# Altium footprint library AD8293.PcbLib: 3 footprints
Each footprint in its own frame and in the unit in brackets; x right, y up, seen from the top. Pads: shape width x height; smd on the part's side, far side on the other; paste and mask are expansions set on the pad; w line width, h text height; cw(c..) or ccw(c..) is an arc to the next point about the centre after c.
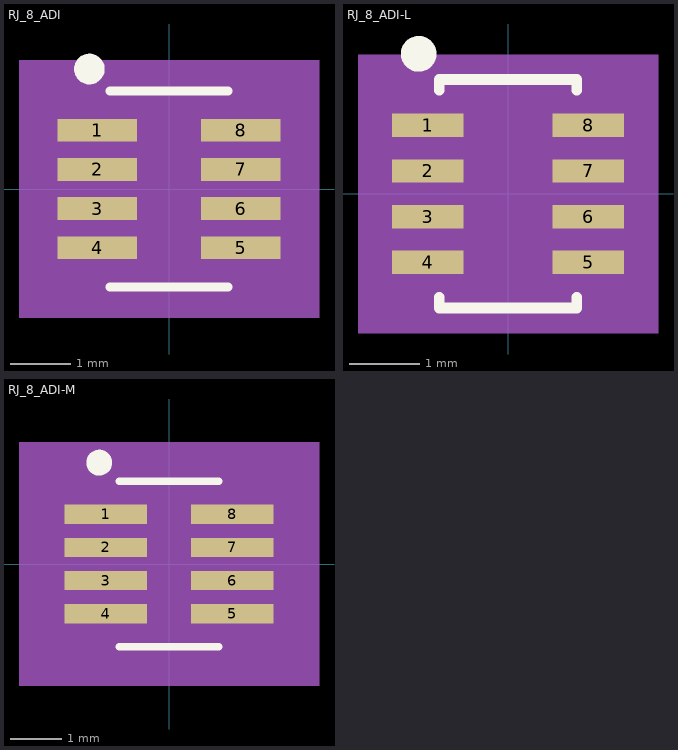
[diagram p0: the footprints below, top view; thin cyan lines are the x and y axes]

## RJ_8_ADI [mil]
pads (8):
  rect 52x15 smd paste+0 mask+0: 1(-47,38.39) 2(-47,12.8) 3(-47,-12.8) 4(-47,-38.39) 5(47,-38.39) 6(47,-12.8) 7(47,12.8) 8(47,38.39)
Top Overlay:
  circle w10: c-52,78.39 r5
  lines w6: -38.5,-64 38.5,-64 ; -38.5,64 38.5,64
Mechanical 5:
  region: 98,-84 -98,-84 -98,84 98,84
Mechanical 13:
  lines w0: -12,59 ccw(c0,59) 12,59
  lines w1: -59,-45.89 -33.5,-45.89 -33.5,-30.89 -59,-30.89 -59,-45.89 ; -59,-20.3 -33.5,-20.3 -33.5,-5.3 -59,-5.3 -59,-20.3 ; -59,5.3 -33.5,5.3 -33.5,20.3 -59,20.3 -59,5.3 ; -59,30.89 -33.5,30.89 -33.5,45.89 -59,45.89 -59,30.89 ; -33.5,-59 -33.5,59 33.5,59 33.5,-59 -33.5,-59 ; 33.5,-45.89 59,-45.89 59,-30.89 33.5,-30.89 33.5,-45.89 ; 33.5,-20.3 59,-20.3 59,-5.3 33.5,-5.3 33.5,-20.3 ; 33.5,5.3 59,5.3 59,20.3 33.5,20.3 33.5,5.3 ; 33.5,30.89 59,30.89 59,45.89 33.5,45.89 33.5,30.89
  text "*" at -36,10.39 h50
Mechanical 15:
  region: 43.5,-69 -43.5,-69 -43.5,-55.89 -83,-55.89 -83,55.89 -43.5,55.89 -43.5,69 43.5,69 43.5,55.89 83,55.89 83,-55.89 43.5,-55.89
  lines w6: -83,-55.89 -83,55.89 -43.5,55.89 -43.5,69 43.5,69 43.5,55.89 83,55.89 83,-55.89 43.5,-55.89 43.5,-69 -43.5,-69 -43.5,-55.89 -83,-55.89
3D body "RJ_8_ADI.step": height 57.09, standoff 0, extent -59.01,-59.01 59.01,59.01

## RJ_8_ADI-L [mil]
pads (8):
  rect 40x13 smd paste+0 mask+0: 1(-45,38.39) 2(-45,12.8) 3(-45,-12.8) 4(-45,-38.39) 5(45,-38.39) 6(45,-12.8) 7(45,12.8) 8(45,38.39)
Top Overlay:
  circle w10: c-50,78.39 r5
  lines w6: -38.5,-57.99 -38.5,-64 38.5,-64 38.5,-57.99 ; -38.5,57.99 -38.5,64 38.5,64 38.5,57.99
Mechanical 5:
  region: 84,-78 -84,-78 -84,78 84,78
Mechanical 13:
  lines w0: -12,59 ccw(c0,59) 12,59
  lines w1: -59,-45.89 -33.5,-45.89 -33.5,-30.89 -59,-30.89 -59,-45.89 ; -59,-20.3 -33.5,-20.3 -33.5,-5.3 -59,-5.3 -59,-20.3 ; -59,5.3 -33.5,5.3 -33.5,20.3 -59,20.3 -59,5.3 ; -59,30.89 -33.5,30.89 -33.5,45.89 -59,45.89 -59,30.89 ; -33.5,-59 -33.5,59 33.5,59 33.5,-59 -33.5,-59 ; 33.5,-45.89 59,-45.89 59,-30.89 33.5,-30.89 33.5,-45.89 ; 33.5,-20.3 59,-20.3 59,-5.3 33.5,-5.3 33.5,-20.3 ; 33.5,5.3 59,5.3 59,20.3 33.5,20.3 33.5,5.3 ; 33.5,30.89 59,30.89 59,45.89 33.5,45.89 33.5,30.89
  text "*" at -36,8.39 h50
Mechanical 15:
  region: 37.5,-63 -37.5,-63 -37.5,-48.89 -69,-48.89 -69,48.89 -37.5,48.89 -37.5,63 37.5,63 37.5,48.89 69,48.89 69,-48.89 37.5,-48.89
  lines w6: -69,-48.89 -69,48.89 -37.5,48.89 -37.5,63 37.5,63 37.5,48.89 69,48.89 69,-48.89 37.5,-48.89 37.5,-63 -37.5,-63 -37.5,-48.89 -69,-48.89
3D body "RJ_8_ADI.step": height 57.09, standoff 0, extent -59.01,-59.01 59.01,59.01

## RJ_8_ADI-M [mil]
pads (8):
  rect 64x15 smd paste+0 mask+0: 1(-49,38.39) 2(-49,12.8) 3(-49,-12.8) 4(-49,-38.39) 5(49,-38.39) 6(49,-12.8) 7(49,12.8) 8(49,38.39)
Top Overlay:
  circle w10: c-54,78.39 r5
  lines w6: -38.5,-64 38.5,-64 ; -38.5,64 38.5,64
Mechanical 5:
  region: 116,-94 -116,-94 -116,94 116,94
Mechanical 13:
  lines w0: -12,59 ccw(c0,59) 12,59
  lines w1: -59,-45.89 -33.5,-45.89 -33.5,-30.89 -59,-30.89 -59,-45.89 ; -59,-20.3 -33.5,-20.3 -33.5,-5.3 -59,-5.3 -59,-20.3 ; -59,5.3 -33.5,5.3 -33.5,20.3 -59,20.3 -59,5.3 ; -59,30.89 -33.5,30.89 -33.5,45.89 -59,45.89 -59,30.89 ; -33.5,-59 -33.5,59 33.5,59 33.5,-59 -33.5,-59 ; 33.5,-45.89 59,-45.89 59,-30.89 33.5,-30.89 33.5,-45.89 ; 33.5,-20.3 59,-20.3 59,-5.3 33.5,-5.3 33.5,-20.3 ; 33.5,5.3 59,5.3 59,20.3 33.5,20.3 33.5,5.3 ; 33.5,30.89 59,30.89 59,45.89 33.5,45.89 33.5,30.89
  text "*" at -36,10.39 h50
Mechanical 15:
  region: 53.5,-79 -53.5,-79 -53.5,-65.89 -101,-65.89 -101,65.89 -53.5,65.89 -53.5,79 53.5,79 53.5,65.89 101,65.89 101,-65.89 53.5,-65.89
  lines w6: -101,-65.89 -101,65.89 -53.5,65.89 -53.5,79 53.5,79 53.5,65.89 101,65.89 101,-65.89 53.5,-65.89 53.5,-79 -53.5,-79 -53.5,-65.89 -101,-65.89
3D body "RJ_8_ADI.step": height 57.09, standoff 0, extent -59.01,-59.01 59.01,59.01